# EAGLE library part DRV8835 (library bt_motordriver)
DRV8835 DUAL LOW VOLTAGE H-BRIDGE IC The DRV8835 provides an integrated motor driver solution for cameras, consumer products, toys, and other low voltage or battery-powered motion control applications. The device has two H-bridge drivers, and can drive two DC motors or one stepper motor, as well as other devices like solenoids. The device has two H-bridge drivers, and drives two DC motors or one stepper motor, as well as other devices like solenoids. The output driver block for each consists of N-channel power MOSFETs configured as an H-bridge to drive the motor winding. An internal charge pump generates gate drive voltages. 1.5-A Maximum Drive Current Per H-Bridge Configure Bridges Parallel for 3-A Drive Curren 0-V to 11-V Motor-Operating Supply-Voltage 2-V to 7-V Logic Supply-Voltage Flexible PWM or PHASE/ENABLE Interface Low-Power Sleep Mode With 95-nA Maximum Supply Current Tiny 2.00-mm × 3.00-mm WSON Package Reference: http://www.ti.com/lit/ds/symlink/drv8835.pdf
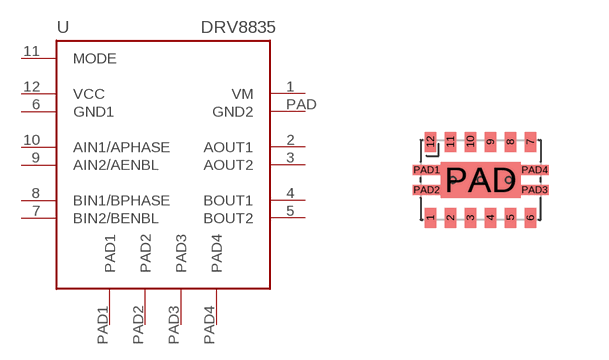
[diagram p0: symbol with the pads of WSON_2X3; footprint WSON_2X3]

Designator prefix U

## DRV8835  [WSON_2X3]
1  VM
2  AOUT1
3  AOUT2
4  BOUT1
5  BOUT2
6  GND1
7  BIN2/BENBL
8  BIN1/BPHASE
9  AIN2/AENBL
10  AIN1/APHASE
11  MODE
12  VCC
PAD  GND2
PAD1  PAD1
PAD2  PAD2
PAD3  PAD3
PAD4  PAD4

## Footprint WSON_2X3 (pad centres in mm)
smd 0.28 x 0.5: 1 -1.25,-0.95; 2 -0.75,-0.95; 3 -0.25,-0.95; 4 0.25,-0.95; 5 0.75,-0.95; 6 1.25,-0.95; 7 1.25,0.95; 8 0.75,0.95; 9 0.25,0.95; 10 -0.25,0.95; 11 -0.75,0.95; 12 -1.25,0.95
smd 2 x 0.9: PAD 0,0
smd 0.7 x 0.25: PAD1 -1.35,0.25; PAD2 -1.35,-0.25; PAD3 1.35,-0.25; PAD4 1.35,0.25
hole 0.15 at 0,0
hole 0.15 at -0.7,0
hole 0.15 at 0.7,0